# Altium footprint library 6PinContactPad.PcbLib: 1 footprints
Each footprint in its own frame and in the unit in brackets; x right, y up, seen from the top. Pads: shape width x height; smd on the part's side, far side on the other; paste and mask are expansions set on the pad; w line width, h text height; cw(c..) or ccw(c..) is an arc to the next point about the centre after c.
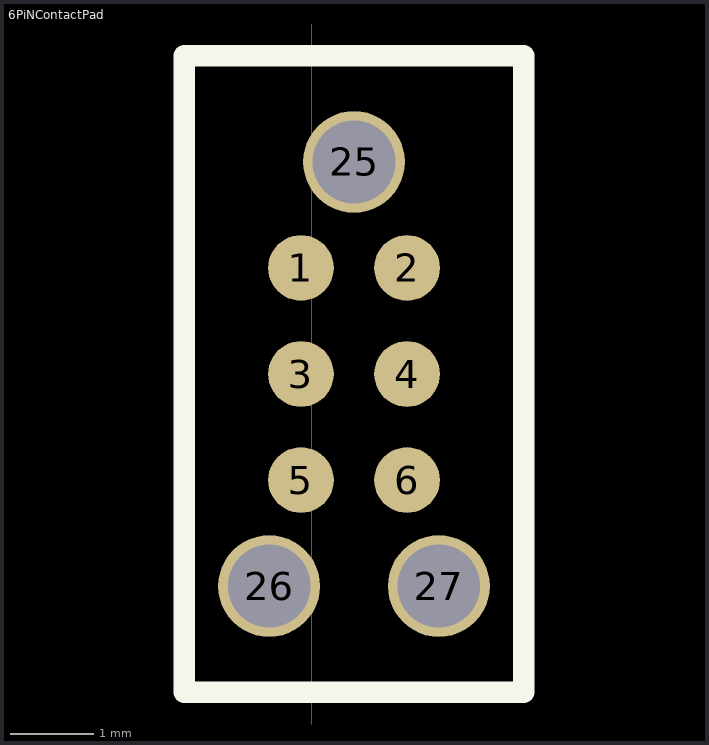
[diagram p0: the footprint, top view; thin cyan lines are the x and y axes]

## 6PiNContactPad [mil]
pads (9):
  round 30.98 smd: 1(-5,260) 2(45,260) 3(-5,210) 4(45,210) 5(-5,160) 6(45,160)
  round 48 hole 39.02 unplated: 25(20,310) 26(-20,110) 27(60,110)
Top Overlay:
  lines w10: -60,60 100,60 100,360 -60,360 -60,60